# EAGLE library part TPS26600PWPR (library ethernet_poe_v2.1)
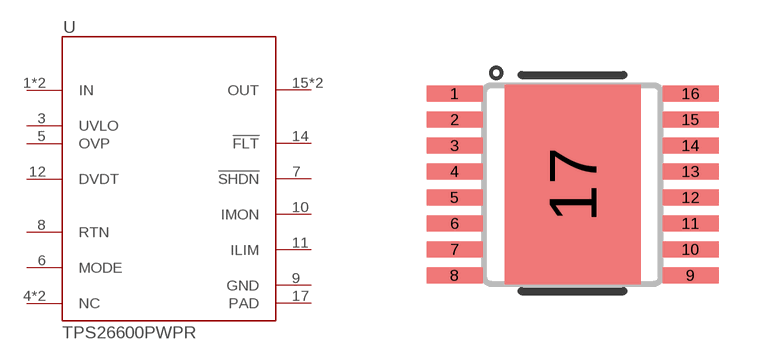
[diagram p4: symbol with the pads of PWP0016H_N; footprint PWP0016H_N]

Designator prefix U

## TPS26600PWPR (DKPN: 296-47292-1-ND)  [PWP0016H_N]
1  IN  pwr
2  IN  pwr
3  UVLO  in
4  NC  nc
5  OVP  in
6  MODE  in
7  !SHDN  in
8  RTN  in
9  GND  pwr
10  IMON  out
11  ILIM  out
12  DVDT  in
13  NC  nc
14  !FLT  oc
15  OUT  pwr
16  OUT  pwr
17  PAD  pwr

## Footprint PWP0016H_N (pad centres in mm)
smd 1.4 x 0.4: 1 -2.95,2.275; 2 -2.95,1.625; 3 -2.95,0.975; 4 -2.95,0.325; 5 -2.95,-0.325; 6 -2.95,-0.975; 7 -2.95,-1.625; 8 -2.95,-2.275; 9 2.95,-2.275; 10 2.95,-1.625; 11 2.95,-0.975; 12 2.95,-0.325; 13 2.95,0.325; 14 2.95,0.975; 15 2.95,1.625; 16 2.95,2.275
smd 3.4 x 5: 17 0,0